# Altium schematic symbol library 2020-02-15_07-12-40.SchLib: 2 symbols
Pins are listed as number, name and electrical type; pins without a type are passive.

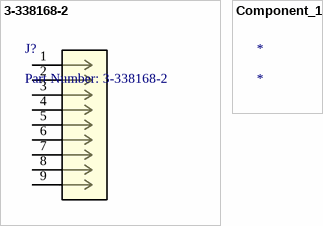
[diagram p0: symbols 3-338168-2 to Component_1]

## 3-338168-2
designator J?, comment Part Number: 3-338168-2
No Description Available; Vendor: TE Connectivity; Built_By: EMA_UL_Team; Manufacturer_Part_Number: 3-338168-2; Copyright: Copyright (C) 2018 Accelerated Designs. All rights reserved; RefDes: RefDes; Type: DEV; Value: Value
footprint CONN_3-338168-2
pins: 1, 2, 3, 4, 5, 6, 7, 8, 9

## Component_1
designator *